# EAGLE library part DRV8332 (library power)
IC MOTOR DRIVER 8-13A 60V 36HSSOP
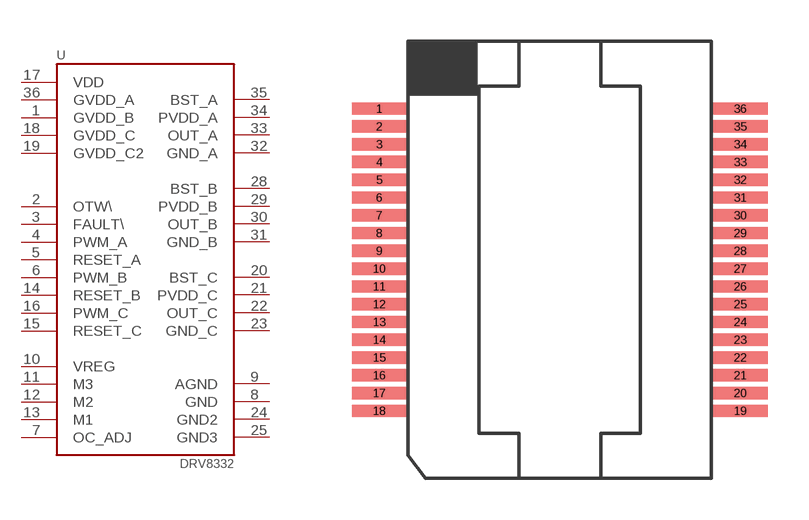
[diagram p4: symbol with the pads of PSOP-36; footprint PSOP-36]

Designator prefix U

## DRV8332  [PSOP-36]
1  GVDD_B
2  OTW\
3  FAULT\
4  PWM_A
5  RESET_A
6  PWM_B
7  OC_ADJ
8  GND
9  AGND
10  VREG
11  M3
12  M2
13  M1
14  RESET_B
15  RESET_C
16  PWM_C
17  VDD
18  GVDD_C
19  GVDD_C2
20  BST_C
21  PVDD_C
22  OUT_C
23  GND_C
24  GND2
25  GND3
28  BST_B
29  PVDD_B
30  OUT_B
31  GND_B
32  GND_A
33  OUT_A
34  PVDD_A
35  BST_A
36  GVDD_A

## Footprint PSOP-36 (pad centres in mm)
smd 2 x 0.45: 1 -6.6,5.525; 2 -6.6,4.875; 3 -6.6,4.225; 4 -6.6,3.575; 5 -6.6,2.925; 6 -6.6,2.275; 7 -6.6,1.625; 8 -6.6,0.975; 9 -6.6,0.325; 10 -6.6,-0.325; 11 -6.6,-0.975; 12 -6.6,-1.625; 13 -6.6,-2.275; 14 -6.6,-2.925; 15 -6.6,-3.575; 16 -6.6,-4.225; 17 -6.6,-4.875; 18 -6.6,-5.525; 19 6.6,-5.525; 20 6.6,-4.875; 21 6.6,-4.225; 22 6.6,-3.575; 23 6.6,-2.925; 24 6.6,-2.275; 25 6.6,-1.625; 26 6.6,-0.975; 27 6.6,-0.325; 28 6.6,0.325; 29 6.6,0.975; 30 6.6,1.625; 31 6.6,2.275; 32 6.6,2.925; 33 6.6,3.575; 34 6.6,4.225; 35 6.6,4.875; 36 6.6,5.525